# EAGLE library part 74HC153 (library thomas_library)
The 74HC153 is a dual 4:1 digital multiplexer
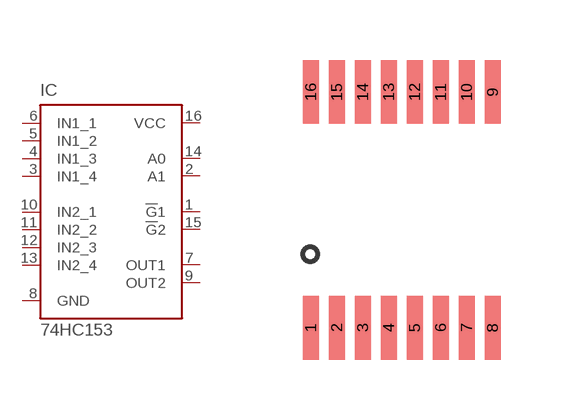
[diagram p0: symbol with the pads of TSSOP_16; footprint TSSOP_16]

Designator prefix IC

## 74HC153  [TSSOP_16]
1  !G!1
2  A1
3  IN1_4
4  IN1_3
5  IN1_2
6  IN1_1
7  OUT1
8  GND
9  OUT2
10  IN2_1
11  IN2_2
12  IN2_3
13  IN2_4
14  A0
15  !G!2
16  VCC

## Footprint TSSOP_16 (pad centres in mm)
This TSSOP-16 footprint has 0.4mm x 1.6mm pin pads, 0.65mm spacing, 5.6mm diameter
smd 0.4 x 1.6: 1 -2.275,-2.85; 2 -1.625,-2.85; 3 -0.975,-2.85; 4 -0.325,-2.85; 5 0.325,-2.85; 6 0.975,-2.85; 7 1.625,-2.85; 8 2.275,-2.85; 9 2.275,3.05; 10 1.625,3.05; 11 0.975,3.05; 12 0.325,3.05; 13 -0.325,3.05; 14 -0.975,3.05; 15 -1.625,3.05; 16 -2.275,3.05